# Altium schematic symbol library MCP6002-I_P.SchLib: 1 symbol
Pins are listed as number, name and electrical type; pins without a type are passive.

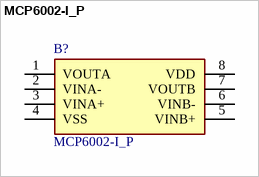
[diagram p0: symbol MCP6002-I_P]

## MCP6002-I_P
designator B?
Operational Amplifiers - Op Amps Dual 1.8V 1MHz; Manufacturer_Name: Microchip; Manufacturer_Part_Number: MCP6002-I/P; Geometry.Height: 5.334mm; Mouser Part Number: 579-MCP6002-I/P; Mouser Price/Stock: https://www.mouser.co.uk/ProductDetail/Microchip-Technology/MCP6002-I-P?qs=Ux5rHyN1IXStLRM979v6Rg%3D%3D; Datasheet Link: *
footprint DIP781W56P254L950H533Q8N
pins: 1 VOUTA, 2 VINA-, 3 VINA+, 4 VSS, 5 VINB+, 6 VINB-, 7 VOUTB, 8 VDD